# EAGLE library part ADC121C027 (library Tracksoar-Thermistor-Buzzer-Shield)
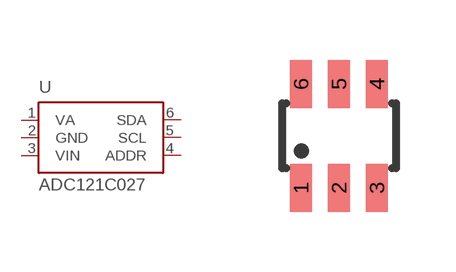
[diagram p5: symbol with the pads of SOT23-6; footprint SOT23-6]

Designator prefix U

## ADC121C027  [SOT23-6]
1  VA  in
2  GND  in
3  VIN  in
4  ADDR  in
5  SCL  in
6  SDA  in

## Footprint SOT23-6 (pad centres in mm)
smd 0.55 x 1.2: 1 -0.95,-1.3; 2 0,-1.3; 3 0.95,-1.3; 4 0.95,1.3; 5 0,1.3; 6 -0.95,1.3